# EAGLE library part MM8430-2600RA1 (library GTA04b7)
SWD-Socket with Antenna switch
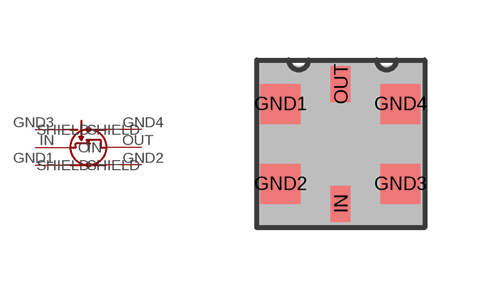
[diagram p29: symbol with the pads of SWD-SOCKETSWITCH-SMT-MURATA; footprint SWD-SOCKETSWITCH-SMT-MURATA]

Designator prefix -

## MM8430-2600RA1  [SWD-SOCKETSWITCH-SMT-MURATA]
GND1  SHIELD  pwr
GND2  SHIELD  pwr
GND3  SHIELD  pwr
GND4  SHIELD  pwr
IN  IN  in
OUT  O  out

## Footprint SWD-SOCKETSWITCH-SMT-MURATA (pad centres in mm)
Murata Socket Switch (for GSM Antenna Measurement)
smd 1 x 1: GND1 -1.5,1; GND2 -1.5,-1; GND3 1.5,-1; GND4 1.5,1
smd 0.5 x 0.9: IN 0,-1.5; OUT 0,1.5